# EAGLE library part ISP2032 (library lattice)
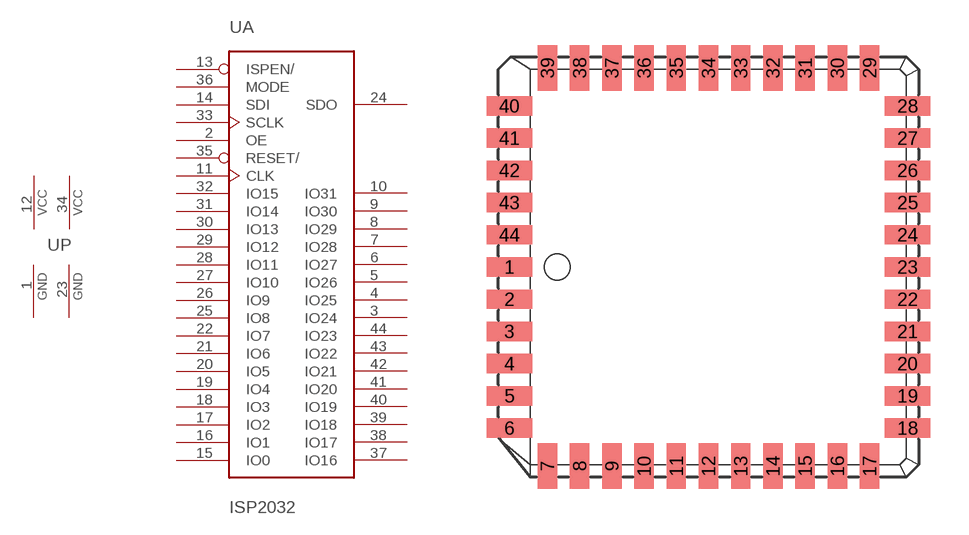
[diagram p0: symbol with the pads of PLCC-44; footprint PLCC-44]

Designator prefix U; gates A=ISP2032 P=2PWR2GND

## ISP2032  [PLCC-44]
1  P:GND  pwr
2  A:OE  in
3  A:IO24
4  A:IO25
5  A:IO26
6  A:IO27
7  A:IO28
8  A:IO29
9  A:IO30
10  A:IO31
11  A:CLK  in
12  P:VCC  pwr
13  A:ISPEN/  in
14  A:SDI  in
15  A:IO0
16  A:IO1
17  A:IO2
18  A:IO3
19  A:IO4
20  A:IO5
21  A:IO6
22  A:IO7
23  P:GND  pwr
24  A:SDO  out
25  A:IO8
26  A:IO9
27  A:IO10
28  A:IO11
29  A:IO12
30  A:IO13
31  A:IO14
32  A:IO15
33  A:SCLK  in
34  P:VCC  pwr
35  A:RESET/  in
36  A:MODE  in
37  A:IO16
38  A:IO17
39  A:IO18
40  A:IO19
41  A:IO20
42  A:IO21
43  A:IO22
44  A:IO23

## Footprint PLCC-44 (pad centres in mm)
smd 1.803 x 0.762: 1 -7.849,0; 2 -7.849,-1.27; 3 -7.849,-2.54; 4 -7.849,-3.81; 5 -7.849,-5.08; 6 -7.849,-6.35; 18 7.849,-6.35; 19 7.849,-5.08; 20 7.849,-3.81; 21 7.849,-2.54; 22 7.849,-1.27; 23 7.849,0; 24 7.849,1.27; 25 7.849,2.54; 26 7.849,3.81; 27 7.849,5.08; 28 7.849,6.35; 40 -7.849,6.35; 41 -7.849,5.08; 42 -7.849,3.81; 43 -7.849,2.54; 44 -7.849,1.27
smd 0.762 x 1.803: 7 -6.35,-7.849; 8 -5.08,-7.849; 9 -3.81,-7.849; 10 -2.54,-7.849; 11 -1.27,-7.849; 12 0,-7.849; 13 1.27,-7.849; 14 2.54,-7.849; 15 3.81,-7.849; 16 5.08,-7.849; 17 6.35,-7.849; 29 6.35,7.849; 30 5.08,7.849; 31 3.81,7.849; 32 2.54,7.849; 33 1.27,7.849; 34 0,7.849; 35 -1.27,7.849; 36 -2.54,7.849; 37 -3.81,7.849; 38 -5.08,7.849; 39 -6.35,7.849